# Altium footprint library Tigershark 3D R1.8.PcbLib: 47 footprints (part 3 of 3)
Each footprint in its own frame and in the unit in brackets; x right, y up, seen from the top. Pads: shape width x height; smd on the part's side, far side on the other; paste and mask are expansions set on the pad; w line width, h text height; cw(c..) or ccw(c..) is an arc to the next point about the centre after c.
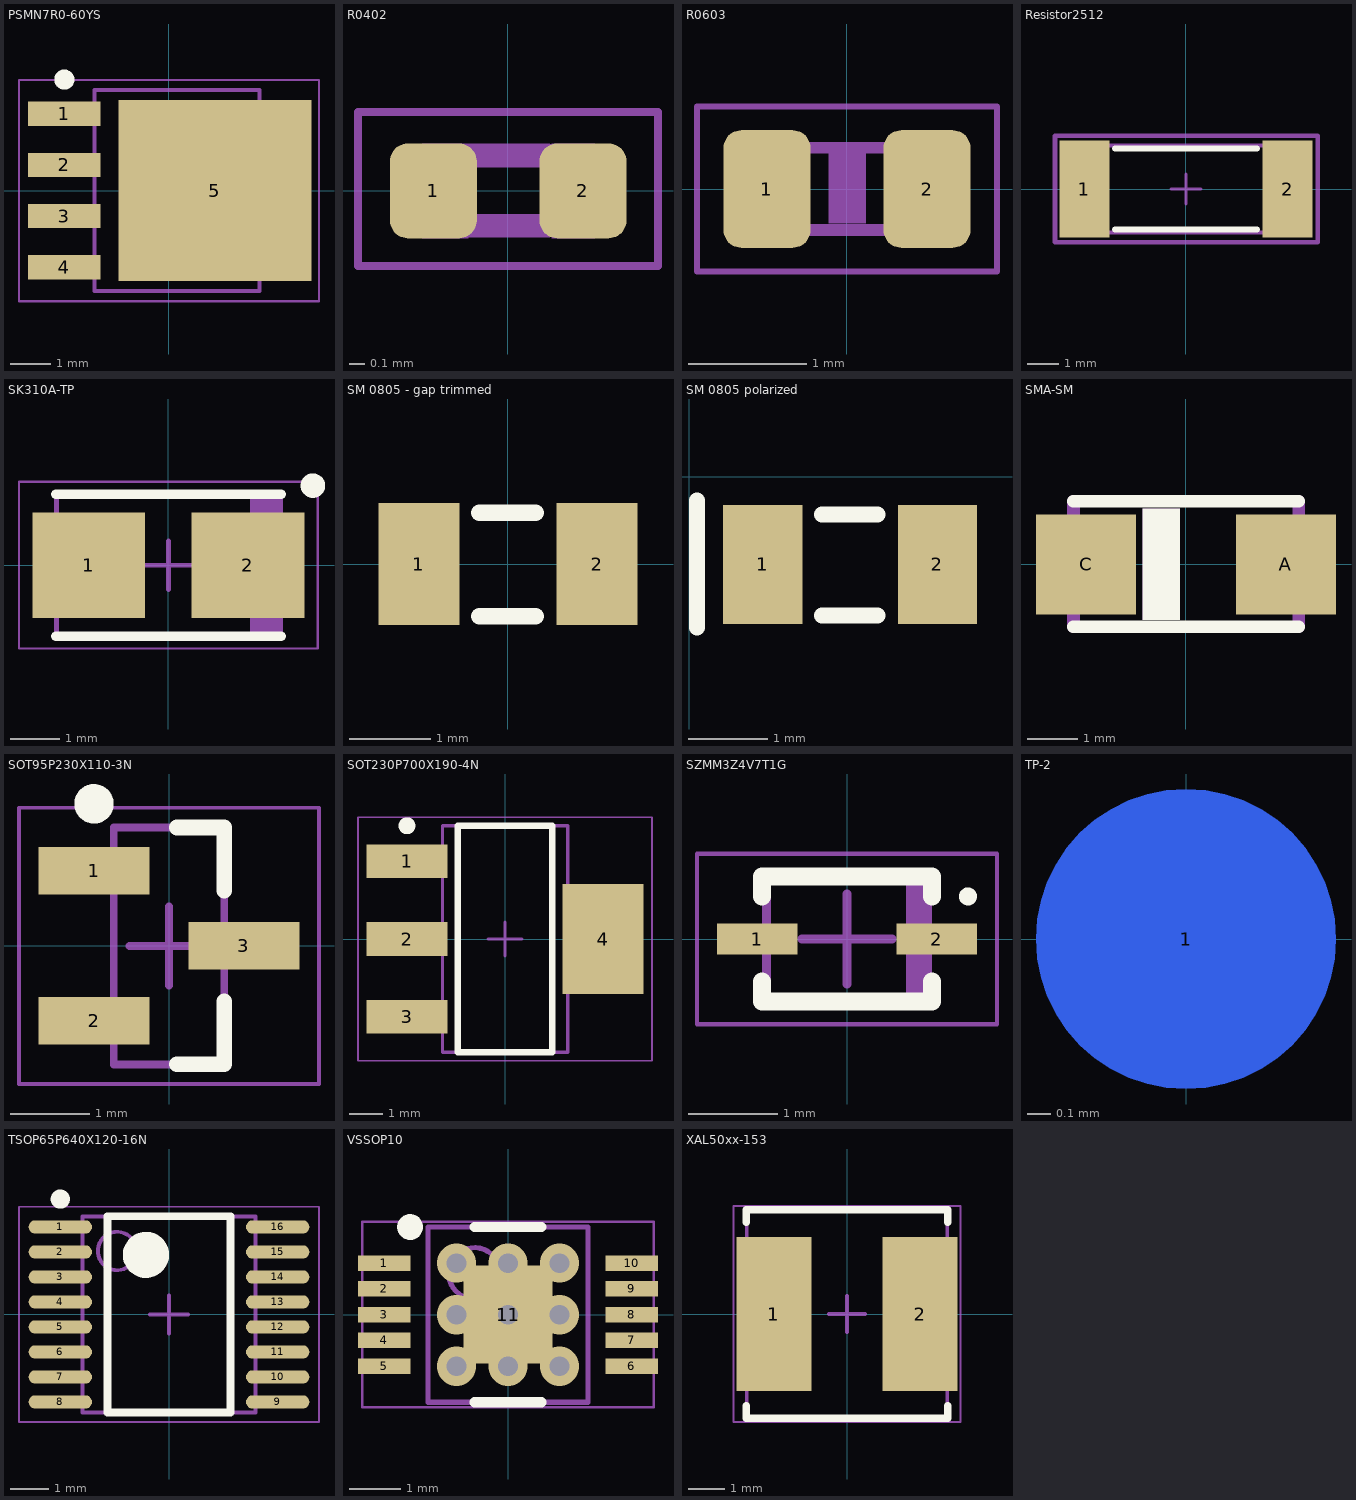
[diagram p2: the footprints below, top view; thin cyan lines are the x and y axes]

## PSMN7R0-60YS [mm]
pads (5):
  rect 1.8x0.6 smd: 1(-2.6,1.905) 2(-2.6,0.635) 3(-2.6,-0.635) 4(-2.6,-1.905)
  rect 4.8x4.5 smd: 5(1.14,0)
Top Overlay:
  circle w0.25: c-2.6,2.755 r0.125
Mechanical 13:
  lines w0.1: -1.85,-2.5 2.25,-2.5 2.25,2.5 -1.85,2.5 -1.85,-2.5
Mechanical 15:
  lines w0.05: -3.725,-2.75 3.725,-2.75 3.725,2.75 -3.725,2.75 -3.725,-2.75
  lines w0.1: -0.5,0 0.5,0 ; 0,-0.5 0,0.5
3D body: height 1.2, standoff 0, extent -1.85,-2.5 2.25,2.5

## R0402 [mil]
pads (2):
  rrect40% 22x24 smd: 1(-18.9,0) 2(19,0)
Mechanical 16:
  rectangle: 11,-12 22,12
  rectangle: -21.81,-12 -10,12
  lines w2: -37.99,-19.02 -37.99,20 38,20 38,-19.02 -37.99,-19.02
  lines w6: -9.65,-8.82 10,-8.82 ; -9.65,9 10,9
3D body: height 13.78, standoff 0, extent -20,-10 20,10

## R0603 [mm]
pads (2):
  rrect40% 0.74x1 smd: 1(-0.68,0) 2(0.68,0)
Mechanical 6:
  rectangle: -0.159,-0.294 0.161,0.306
Mechanical 16:
  rectangle: -0.8,-0.4 -0.45,0.4
  rectangle: 0.45,-0.4 0.8,0.4
  lines w0.051: -1.275,-0.7 1.275,-0.7 1.275,0.7 -1.275,0.7 -1.275,-0.7
  lines w0.1: -0.45,0.35 0.45,0.35
  lines w0.102: -0.45,-0.35 0.45,-0.35
3D body: height 0.8, standoff 0, extent -0.8,-0.4 0.8,0.4

## Resistor2512 [mm]
pads (2):
  rect 1.6x3.1 smd: 1(-3.25,0) 2(3.25,0)
Top Overlay:
  lines w0.2: -2.261,-1.295 2.261,-1.295 ; -2.261,1.295 2.261,1.295
Mechanical 1:
  lines w0.126: -3.175,-1.397 3.175,-1.397 3.175,1.397 -2.54,1.397 -3.175,1.397 -3.175,-1.397
Mechanical 15:
  lines w0.1: -0.475,0 0.475,0 ; 0,-0.475 0,0.475
  lines w0.15: -4.191,-1.702 -4.191,1.702 -1.535,1.702 4.216,1.702 4.216,-1.702 -4.191,-1.702
3D body: height 0.9, standoff 0, extent -3.238,-1.397 3.239,1.397

## SK310A-TP [mm]
pads (2):
  rect 2.3x2.15 smd: 1(-1.625,0) 2(1.625,0)
Top Overlay:
  circle w0.25: c2.95,1.625 r0.125
  lines w0.2: -2.3,-1.45 2.3,-1.45 ; -2.3,1.45 2.3,1.45
Mechanical 13:
  rectangle: 1.67,-1.419 2.285,1.421
  lines w0.1: -2.285,-1.42 -2.285,1.42 2.285,1.42 2.285,-1.42 -2.285,-1.42
Mechanical 15:
  lines w0.05: -3.05,-1.7 -3.05,1.7 3.05,1.7 3.05,-1.7 -3.05,-1.7
  lines w0.1: -0.5,0 0.5,0 ; 0,-0.5 0,0.5
3D body: height 2.95, standoff 0, extent -2.285,-1.42 2.285,1.42

## SM 0805 - gap trimmed [mm]
pads (2):
  rect 1x1.5 smd: 1(-1.1,0) 2(1.1,0)
Top Overlay:
  lines w0.203: -0.355,-0.645 0.345,-0.645 ; -0.355,0.63 0.345,0.63

## SM 0805 polarized [mm]
pads (2):
  rect 1x1.5 smd: 1(0.93,-1.105) 2(3.13,-1.105)
Top Overlay:
  lines w0.203: 0.1,-1.9 0.1,-0.3 ; 1.675,-1.75 2.375,-1.75 ; 1.675,-0.475 2.375,-0.475

## SMA-SM [mil]
pads (2):
  rect 79x79 smd: A(79,0) C(-78.74,0)
Top Overlay:
  rectangle: -34.06,-43.9 -4.53,44
  lines w10: -88.58,-49.21 89,-49.21 ; -88.58,50 89,50
Mechanical 16:
  rectangle: 94,-32.48 111,32
  rectangle: -110.24,-31.5 -93.7,32
  rectangle: -34.06,-43.9 -4.53,44
  lines w10: -88.58,-49.21 -88.58,50 ; 89,-49.21 89,50
3D body: height 116.14, standoff 0, extent -93.58,-54.21 94,55
3D body: height 78.74, standoff 0, extent -105,-40 105,40

## SOT95P230X110-3N [mm]
pads (3):
  rect 1.4x0.6 smd: 1(-0.95,0.95) 2(-0.95,-0.95) 3(0.95,0)
Top Overlay:
  circle w0.25: c-0.95,1.8 r0.125
  lines w0.2: 0.1,-1.5 0.7,-1.5 0.7,-0.7 ; 0.1,1.5 0.7,1.5 0.7,0.7
Mechanical 13:
  lines w0.1: -0.7,-1.5 -0.7,1.5 0.7,1.5 0.7,-1.5 -0.7,-1.5
Mechanical 15:
  lines w0.05: -1.9,-1.75 -1.9,1.75 1.9,1.75 1.9,-1.75 -1.9,-1.75
  lines w0.1: -0.5,0 0.5,0 ; 0,-0.5 0,0.5
3D body: height 1.1, standoff 0.1, extent -0.7,-1.5 0.7,1.5

## SOT230P700X190-4N [mm]
pads (4):
  rect 2.4x1 smd: 1(-2.9,2.3) 2(-2.9,0) 3(-2.9,-2.3)
  rect 2.4x3.25 smd: 4(2.9,0)
Top Overlay:
  circle w0.25: c-2.9,3.35 r0.125
  lines w0.2: -1.4,-3.35 -1.4,3.35 1.4,3.35 1.4,-3.35 -1.4,-3.35
Mechanical 13:
  lines w0.1: -1.85,-3.35 -1.85,3.35 1.85,3.35 1.85,-3.35 -1.85,-3.35
Mechanical 15:
  lines w0.05: -4.35,-3.6 -4.35,3.6 4.35,3.6 4.35,-3.6 -4.35,-3.6
  lines w0.1: -0.5,0 0.5,0 ; 0,-0.5 0,0.5
3D body: height 1.9, standoff 0.1, extent -1.85,-3.35 1.85,3.35

## SZMM3Z4V7T1G [mm]
pads (2):
  rect 0.9x0.35 smd: 1(-1,0) 2(1,0)
Top Overlay:
  circle w0.1: c1.35,0.475 r0.05
  lines w0.2: -0.95,-0.475 -0.95,-0.7 0.95,-0.7 0.95,-0.475 ; -0.95,0.475 -0.95,0.7 0.95,0.7 0.95,0.475
Mechanical 13:
  rectangle: 0.661,-0.666 0.903,0.684
  lines w0.1: -0.9,-0.675 0.9,-0.675 0.9,0.675 -0.9,0.675 -0.9,-0.675
Mechanical 15:
  lines w0.05: -1.675,-0.95 1.675,-0.95 1.675,0.95 -1.675,0.95 -1.675,-0.95
  lines w0.1: -0.5,0 0.5,0 ; 0,-0.5 0,0.5
3D body: height 1, standoff 0, extent -0.9,-0.675 0.9,0.675

## TP-2 [mm]
pads (1):
  round 1.27 smd far side: 1(0,0)

## TSOP65P640X120-16N [mm]
pads (16):
  oval 1.65x0.35 smd: 1(-2.825,2.275) 2(-2.825,1.625) 3(-2.825,0.975) 4(-2.825,0.325) 5(-2.825,-0.325) 6(-2.825,-0.975) 7(-2.825,-1.625) 8(-2.825,-2.275) 9(2.825,-2.275) 10(2.825,-1.625) 11(2.825,-0.975) 12(2.825,-0.325) 13(2.825,0.325) 14(2.825,0.975) 15(2.825,1.625) 16(2.825,2.275)
Top Overlay:
  circle w0.25: c-2.825,3 r0.125
  circle w0.6: c-0.6,1.55 r0.3
  lines w0.2: -1.6,-2.55 -1.6,2.55 1.6,2.55 1.6,-2.55 -1.6,-2.55
Mechanical 13:
  circle w0.1: c-1.35,1.65 r0.5
  lines w0.1: -2.25,-2.55 -2.25,2.55 2.25,2.55 2.25,-2.55 -2.25,-2.55
Mechanical 15:
  lines w0.05: -3.9,-2.8 -3.9,2.8 3.9,2.8 3.9,-2.8 -3.9,-2.8
  lines w0.1: -0.5,0 0.5,0 ; 0,-0.5 0,0.5
3D body: height 1.2, standoff 0.05, extent -2.25,-2.55 2.25,2.55

## VSSOP10 [mm]
pads (11):
  rect 1.02x0.3 smd mask+0.102: 1(-2.4,1) 2(-2.4,0.5) 3(-2.4,0) 4(-2.4,-0.5) 5(-2.4,-1) 6(2.4,-1) 7(2.4,-0.5) 8(2.4,0) 9(2.4,0.5) 10(2.4,1)
  rect 1.73x1.9 smd: 11(0,0)
via 1,1 diameter 0.762 hole 0.381
via 0,1 diameter 0.762 hole 0.381
via -1,1 diameter 0.762 hole 0.381
via -1,0 diameter 0.762 hole 0.381
via -1,-1 diameter 0.762 hole 0.381
via 0,-1 diameter 0.762 hole 0.381
via 1,-1 diameter 0.762 hole 0.381
via 1,0 diameter 0.762 hole 0.381
via 0,0 diameter 0.762 hole 0.381
Top Overlay:
  circle w0.25: c-1.9,1.7 r0.125
  lines w0.2: -0.65,-1.7 0.65,-1.7 ; -0.65,1.7 0.65,1.7
Mechanical 13:
  circle w0.1: c-0.65,0.8 r0.5
  lines w0.1: -1.55,-1.7 1.55,-1.7 1.55,1.7 -1.55,1.7 -1.55,-1.7
Mechanical 15:
  lines w0.05: -2.825,-1.8 2.825,-1.8 2.825,1.8 -2.825,1.8 -2.825,-1.8
  lines w0.1: -0.5,0 0.5,0 ; 0,-0.5 0,0.5
3D body: height 1.09, standoff 0.02, extent -1.55,-1.7 1.55,1.7

## XAL50xx-153 [mm]
pads (2):
  rect 2.05x4.2 smd: 1(-2,0) 2(2,0)
Top Overlay:
  lines w0.2: -2.75,-2.5 -2.75,-2.85 2.75,-2.85 2.75,-2.5 ; -2.75,2.5 -2.75,2.85 2.75,2.85 2.75,2.5
Mechanical 13:
  lines w0.1: -2.74,-2.84 2.74,-2.84 2.74,2.84 -2.74,2.84 -2.74,-2.84
Mechanical 15:
  lines w0.05: -3.1,-2.95 3.1,-2.95 3.1,2.95 -3.1,2.95 -3.1,-2.95
  lines w0.1: -0.5,0 0.5,0 ; 0,-0.5 0,0.5
3D body: height 4.25, standoff 0, extent -2.74,-2.84 2.74,2.84